# Altium footprint library BMD-330-A-R.PcbLib: 1 footprints
Each footprint in its own frame and in the unit in brackets; x right, y up, seen from the top. Pads: shape width x height; smd on the part's side, far side on the other; paste and mask are expansions set on the pad; w line width, h text height; cw(c..) or ccw(c..) is an arc to the next point about the centre after c.
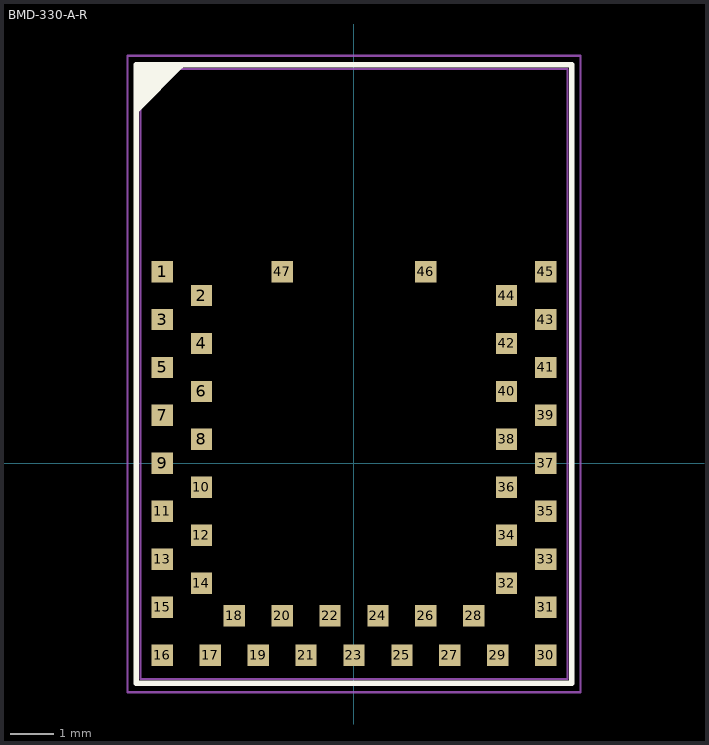
[diagram p0: the footprint, top view; thin cyan lines are the x and y axes]

## BMD-330-A-R [mm] "Bluetooth Modulee (802.15.1) BMD-330-A-R"
pads (47):
  rect 0.49x0.49 smd: 1(-4.4,4.4) 2(-3.5,3.85) 3(-4.4,3.3) 4(-3.5,2.75) 5(-4.4,2.2) 6(-3.5,1.65) 7(-4.4,1.1) 8(-3.5,0.55) 9(-4.4,0) 10(-3.5,-0.55) 11(-4.4,-1.1) 12(-3.5,-1.65) 13(-4.4,-2.2) 14(-3.5,-2.75) 15(-4.4,-3.3) 16(-4.4,-4.4) 17(-3.3,-4.4) 18(-2.75,-3.5) 19(-2.2,-4.4) 20(-1.65,-3.5) 21(-1.1,-4.4) 22(-0.55,-3.5) 23(0,-4.4) 24(0.55,-3.5) 25(1.1,-4.4) 26(1.65,-3.5) 27(2.2,-4.4) 28(2.75,-3.5) 29(3.3,-4.4) 30(4.4,-4.4) 31(4.4,-3.3) 32(3.5,-2.75) 33(4.4,-2.2) 34(3.5,-1.65) 35(4.4,-1.1) 36(3.5,-0.55) 37(4.4,0) 38(3.5,0.55) 39(4.4,1.1) 40(3.5,1.65) 41(4.4,2.2) 42(3.5,2.75) 43(4.4,3.3) 44(3.5,3.85) 45(4.4,4.4) 46(1.65,4.4) 47(-1.65,4.4)
Top Overlay:
  region: -4.975,8.125 -3.975,9.125 -4.975,9.125
  lines w0.127: -4.967,8.123 -3.967,9.123 ; -5,-5.05 -5,9.15 5,9.15 5,-5.05 -5,-5.05
Assembly Top:
  lines w0.05: -4.9,-4.95 -4.9,9.05 4.9,9.05 4.9,-4.95 -4.9,-4.95
3D Body Top:
  lines w0.05: -5.2,-5.25 -5.2,9.35 5.2,9.35 5.2,-5.25 -5.2,-5.25
Multi-Layer:
  pour cut-out: -4.9,4.65 4.9,4.65 4.9,9.05 -4.9,9.05
3D body "BMD-300_assembly.STEP": height 1.89, standoff 0.05, extent -4.9,-4.95 4.9,9.05